# Altium footprint library PCB - LEADLESS - DFN - ON SEMI SO8FL 488AA-1.PcbLib: 1 footprints
Each footprint in its own frame and in the unit in brackets; x right, y up, seen from the top. Pads: shape width x height; smd on the part's side, far side on the other; paste and mask are expansions set on the pad; w line width, h text height; cw(c..) or ccw(c..) is an arc to the next point about the centre after c.
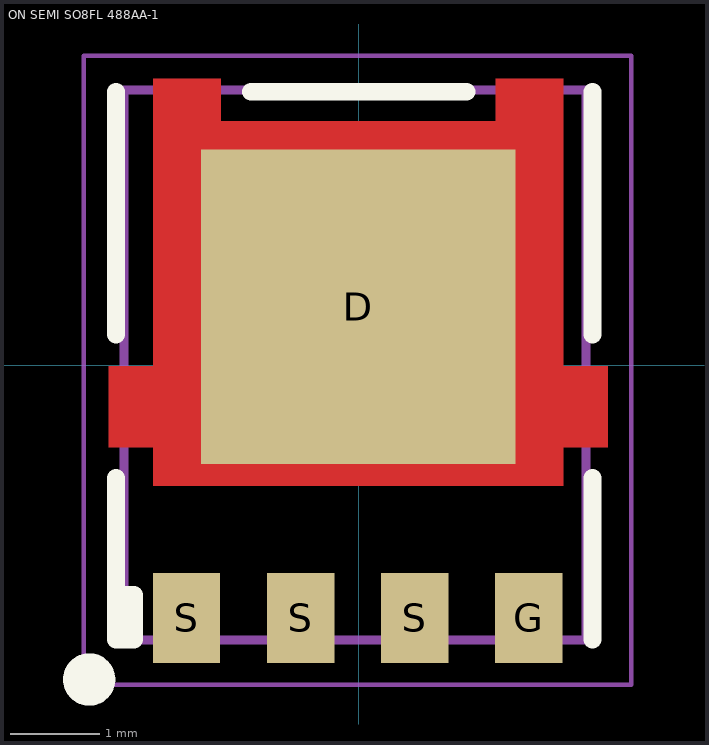
[diagram p0: the footprint, top view; thin cyan lines are the x and y axes]

## ON SEMI SO8FL 488AA-1 [mm] "MOSFET, SO-8 FL, 30V, 93A. Body 5 x 5.8 x 1 mm"
height 1.1
pads (5):
  rect 3.5x3.5 smd paste-1 mask-1: D(-0.005,0.649)
  rect 0.75x1 smd: G(1.894,-2.814) S(-1.916,-2.814) S(-0.646,-2.814) S(0.624,-2.814)
Top Layer:
  region: 2.275,3.189 1.525,3.189 1.525,2.714 -1.535,2.714 -1.535,3.189 -2.285,3.189 -2.285,-0.011 -2.78,-0.011 -2.78,-0.916 -2.285,-0.916 -2.285,-1.341 2.275,-1.341 2.275,-0.916 2.77,-0.916 2.77,-0.011 2.275,-0.011
Top Overlay:
  circle w0.3: c-3,-3.5 r0.141
  rectangle: -2.7,-3.057 -2.5,-2.558
  lines w0.2: -2.7,-2.558 -2.5,-2.558 -2.5,-3.057 -2.7,-3.057 -2.7,-1.257 ; -2.7,0.343 -2.7,3.043 ; -1.2,3.043 1.2,3.043 ; 2.6,-3.057 2.6,-1.257 ; 2.6,0.343 2.6,3.043
Mechanical 13:
  lines w0.1: -2.611,-3.061 2.529,-3.061 2.529,3.062 -2.611,3.062 -2.611,-3.061
Mechanical 15 (Mech15):
  lines w0.05: -3.059,-3.557 -3.059,3.443 3.037,3.443 3.037,-3.557 -3.059,-3.557
  lines w0.1: -0.5,0.042 0.5,0.042 ; 0,-0.458 0,0.542
3D body "Nuevo documento de texto.step": height 1.11, standoff 0.01, extent -2.628,-3.086 2.522,3.064